# EAGLE library part ICSP (library SM-Microchip)
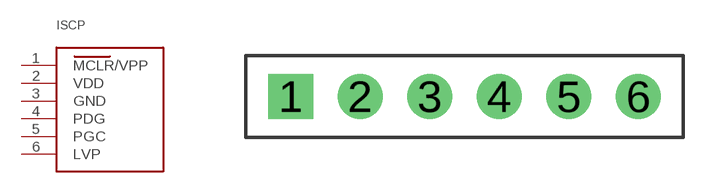
[diagram p0: symbol with the pads of 1X6-2.54; footprint 1X6-2.54]

Designator prefix ISCP

## ICSP1X6-2.54  [1X6-2.54]
1  MCLR/VPP
2  VDD
3  GND
4  PDG
5  PGC
6  LVP

## Footprint 1X6-2.54 (pad centres in mm)
drill 1.1 square: 1 -6.35,0.5
drill 1.1: 2 -3.81,0.5; 3 -1.27,0.5; 4 1.27,0.5; 5 3.81,0.5; 6 6.35,0.5